# Altium footprint library Strap-weld-6mmx3mm.PcbLib: 1 footprints
Each footprint in its own frame and in the unit in brackets; x right, y up, seen from the top. Pads: shape width x height; smd on the part's side, far side on the other; paste and mask are expansions set on the pad; w line width, h text height; cw(c..) or ccw(c..) is an arc to the next point about the centre after c.
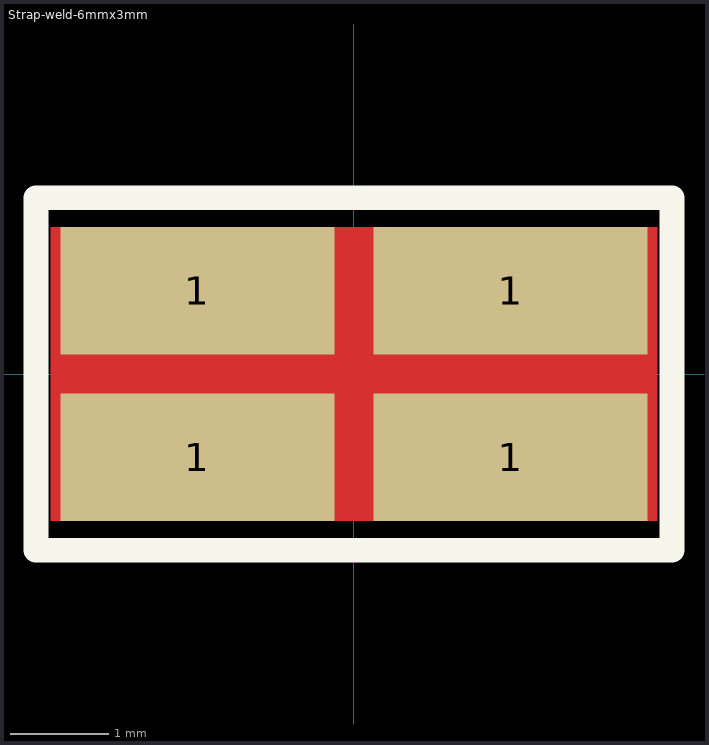
[diagram p0: the footprint, top view; thin cyan lines are the x and y axes]

## Strap-weld-6mmx3mm [mm]
pads (4):
  rect 2.8x1.3 smd: 1(-1.6,-0.85) 1(-1.6,0.85) 1(1.6,-0.85) 1(1.6,0.85)
Top Layer:
  rectangle: -3.1,-1.5 3.1,1.5
Top Overlay:
  lines w0.254: -3.25,-1.8 -3.25,1.8 3.25,1.8 3.25,-1.8 -3.25,-1.8